# EAGLE library part EK32 (library radiotubes)
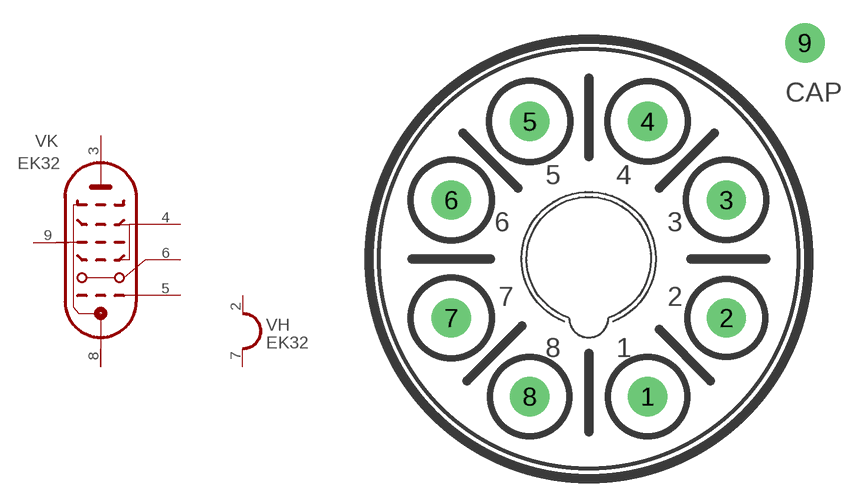
[diagram p128: symbol with the pads of OCTAL-C; footprint OCTAL-C]

Designator prefix V; gates K=OCTODE H=HEATER_1

## EK32  [OCTAL-C]
2  H:H1  pas
3  K:A  pas
4  K:SG  pas
5  K:G1  pas
6  K:AO  pas
7  H:H2  pas
8  K:K  pas
9  K:G-IN  pas

## Footprint OCTAL-C (pad centres in mm)
drill 1.27 pad 2.54: 1 3.81,-8.89; 2 8.89,-3.81; 3 8.89,3.81; 4 3.81,8.89; 5 -3.81,8.89; 6 -8.89,3.81; 7 -8.89,-3.81; 8 -3.81,-8.89; 9 13.97,13.97